# EAGLE library part 74LVC1G175 (library rezzonics)
SINGLE D-TYPE FLIP-FLOP WITH ASYNCHRONOUS CLEAR
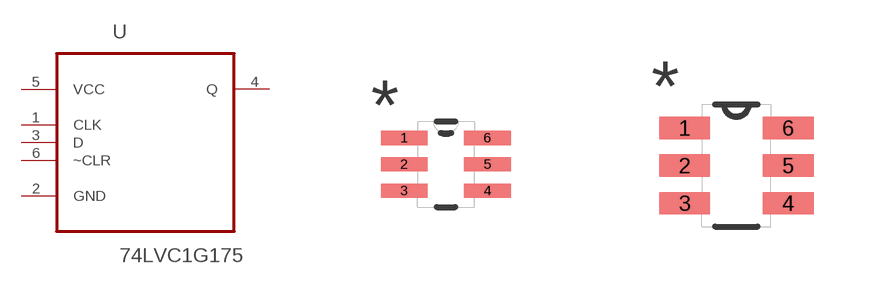
[diagram p14: symbol with the pads of SOT65P210X110-6N; footprints SOT65P210X110-6N, SOT95P280X145-6N]

Designator prefix U

## 74LVC1G175DCKSOT65  [SOT65P210X110-6N]
1  CLK  in
2  GND  pas
3  D  in
4  Q  out
5  VCC  pwr
6  ~CLR  in

## 74LVC1G175DBVSOT95  [SOT95P280X145-6N]
Pads as for SOT65P210X110-6N

## Footprint SOT65P210X110-6N (pad centres in mm)
smd 1.168 x 0.356: 1 -1.041,0.66; 2 -1.041,0; 3 -1.041,-0.66; 4 1.041,-0.66; 5 1.041,0; 6 1.041,0.66

## Footprint SOT95P280X145-6N (pad centres in mm)
smd 1.27 x 0.559: 1 -1.295,0.94; 2 -1.295,0; 3 -1.295,-0.94; 4 1.295,-0.94; 5 1.295,0; 6 1.295,0.94